# Altium footprint library PCB_Antenna.PcbLib: 4 footprints
Each footprint in its own frame and in the unit in brackets; x right, y up, seen from the top. Pads: shape width x height; smd on the part's side, far side on the other; paste and mask are expansions set on the pad; w line width, h text height; cw(c..) or ccw(c..) is an arc to the next point about the centre after c.
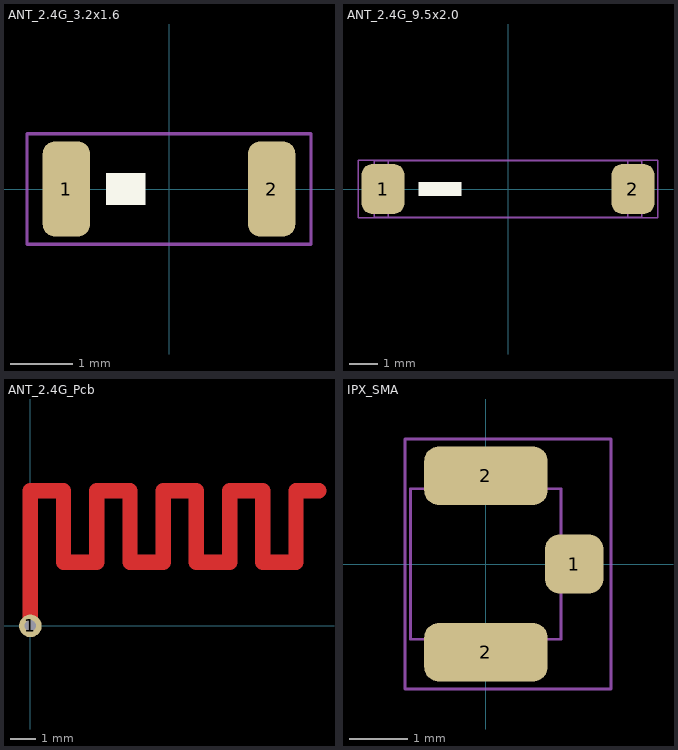
[diagram p0: the footprints below, top view; thin cyan lines are the x and y axes]

## ANT_2.4G_3.2x1.6 [mil]
height 47.24
pads (2):
  rrect50% 30x60 smd: 1(-65,0) 2(65,0)
Top Overlay:
  rectangle: -40,-10 -15,10
T-Component:
  lines w2: -90,-35 90,-35 90,35 -90,35 -90,-35
  text ".Designator" at -75,-20 h80
3D body "User Library-2450AT18A100E.STEP": height 53.15, standoff -1.97, extent -64.96,-33.46 64.96,33.47

## ANT_2.4G_9.5x2.0 [mil]
height 47.24
pads (2):
  rrect50% 60x70 smd: 1(-175,0) 2(175,0)
Top Overlay:
  rectangle: -125,-10 -65,10
Mechanical 13:
  lines w2: -167.32,-39.37 -167.32,39.37 ; 167.32,-39.37 167.32,39.37 ; -187.01,-39.37 187.01,-39.37 187.01,39.37 -187.01,39.37 -187.01,-39.37
T-Component:
  lines w2: -210,-40 210,-40 210,40 -210,40 -210,-40
  text ".Designator" at -75,-20 h80
3D body "User Library-ANTENNA_WLAN.STEP": height 40.16, standoff -0.79, extent -187.8,-40 187.8,40.31

## ANT_2.4G_Pcb [mil]
pads (1):
  round 35 hole 18: 1(0,0)
Top Layer:
  lines w23.62: 0,3.51 0,208.24 51.18,208.24 51.18,98 102.36,98 102.36,208.24 153.54,208.24 153.54,98 204.72,98 204.72,208.24 255.91,208.24 255.91,98 307.09,98 307.09,208.24 358.27,208.24 358.27,98 409.45,98 409.45,208.24 444.88,208.24

## IPX_SMA [mil]
pads (3):
  rrect50% 40x40 smd: 1(60,0)
  rrect50% 84x40 smd: 2(0,-60) 2(0,60)
Mechanical 13:
  lines w2: -51.18,-51.18 51.18,-51.18 51.18,51.18 -51.18,51.18 -51.18,-51.18
T-Component:
  lines w2: -55,-85 85,-85 85,85 -55,85 -55,-85
  text ".Designator" at -60,-20 h80